# Altium schematic symbol library Node Schematic Library.SchLib: 19 symbols
Pins are listed as number, name and electrical type; pins without a type are passive.

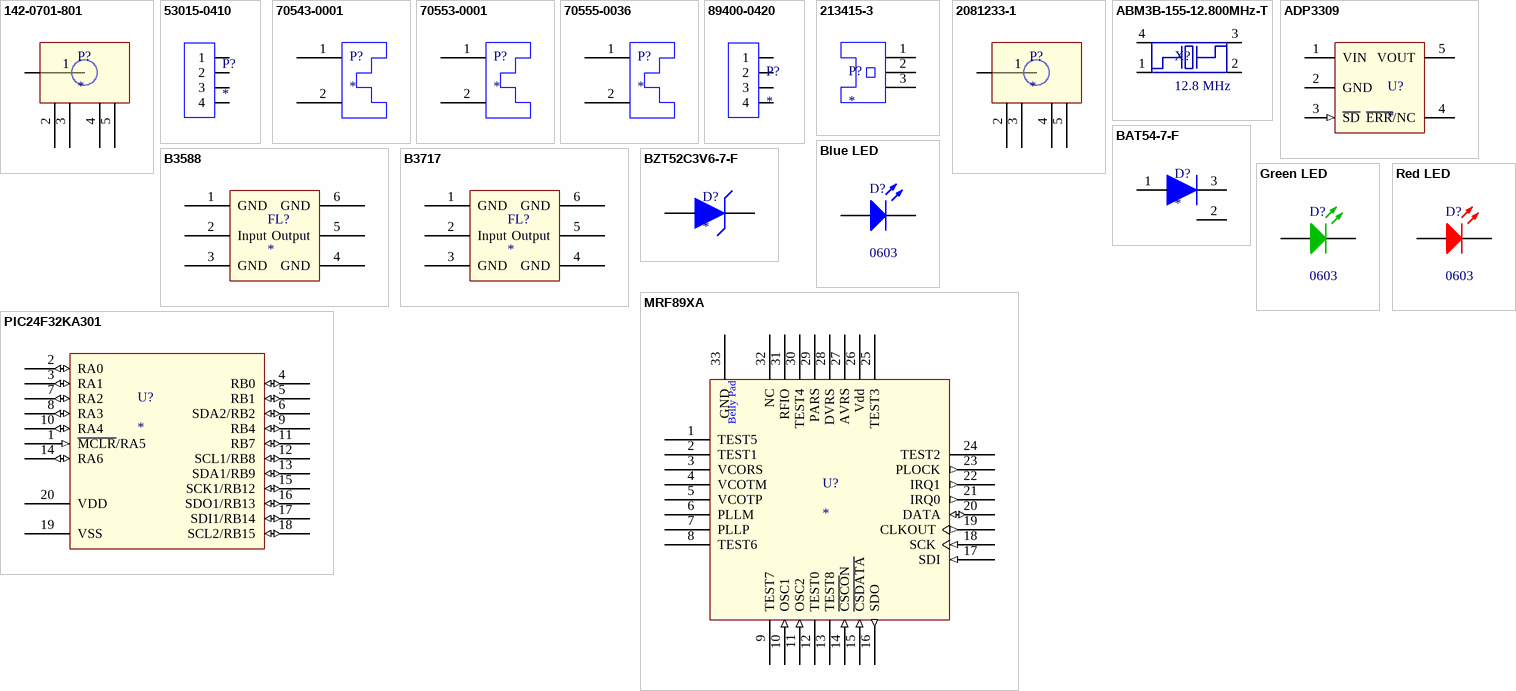
[diagram p0: symbols 142-0701-801 to Red LED]

## 142-0701-801
designator P?
SMA 50 ohm Female Socket, End Launch
footprint 142-0701-801 (SMA Jack, 50 ohm, End Launch)
pins: 1 Pin, 2, 3, 4, 5

## 53015-0410
designator P?
4 Position, 2.00 mm Header, RA
footprint 53015-0410 (2mm RA Header)
pins: 1, 2, 3, 4

## 70543-0001
designator P?
Header, Shrouded, 2 Pin, Horizontal
footprint 070543-0001 (Shrouded 2 Pin Header, Horizontal, 0.100)
pins: 1, 2

## 70553-0001
designator P?
Header, Shrouded, 2 Pin, RA
footprint 070553-0001 (Shrouded 2 Pin Header, RA, 0.100)
pins: 1, 2

## 70555-0036
designator P?
Header, Shrouded, 2 Pin, RA
footprint 70555-0036 (Shrouded 2 Pin Header, RA, 0.100)
pins: 1, 2

## 89400-0420
designator P?
4 Position 2.00 mm Header
footprint 89400-0420 (4 Position, 2.0 mm Vertical Header)
pins: 1, 2, 3, 4

## 213415-3
designator P?
3 Position Vertical Header, 2.5 mm
footprint 2132415-3 (3 Position Vertical Header, 2.5mm)
pins: 1, 2, 3

## 2081233-1
designator P?
SMA 50 ohm Female Socket
footprint 5-1814832-1 (SMA Jack, 50 ohm)
pins: 1 Pin, 2, 3, 4, 5

## ABM3B-155-12.800MHz-T
designator X?, comment 12.8 MHz
Abracon 12.8 MHz, 10ppm
footprint ABM3B (5.0 x 3.2 mm SMT)
pins: 1, 2, 3, 4

## ADP3309
designator U?
100 mA LDO Regulator, 3.3V out
footprint SOT95P280X145-5N (SOT23, 5-Leads, Body 2.90x2.80mm, Pitch 0.95mm, IPC Medium Density)
pins: 1 VIN, 2 GND, 3 ~{SD} (in), 4 ~{ERR}/NC, 5 VOUT

## B3588
designator FL?
915 MHz Saw Filter; EPOCS: http://www.epcos.com/inf/40/ds/ae/B3717.pdf
footprint B3717 (3.0 x 3.0 x 1.1 mm SMT)
pins: 1 GND, 2 Input, 3 GND, 4 GND, 5 Output, 6 GND

## B3717
designator FL?
866.5 MHz Saw Filter; EPOCS: http://www.epcos.com/inf/40/ds/ae/B3717.pdf
footprint B3717 (3.0 x 3.0 x 1.1 mm SMT)
pins: 1 GND, 2 Input, 3 GND, 4 GND, 5 Output, 6 GND

## BAT54-7-F
designator D?
Schottky Barrier Diode, 200mA
footprint SOT90P240X110-3N (SOT23, 3-Leads, Body 2.90x2.40mm, Pitch 0.90mm, IPC Medium Density)
pins: 1, 2, 3

## Blue LED
designator D?, comment 0603
Blue LED; Published: 8-Jun-2000; LatestRevisionDate: 08-Jul-2005; LatestRevisionNote: Mech Layer 1 removed.; PackageReference: LED-0; Publisher: Altium Limited; PackageDescription: LED; 2 Leads
footprint 0603 LED (LED, Body 1.6x0.8mm, IPC High Density)
pins: 1 K, 2 A

## BZT52C3V6-7-F
designator D?
Zener Diode, 3.6V, 500 mW
footprint SOD-123 (Generic Diode)
pins: 1, 2

## Green LED
designator D?, comment 0603
Green LED; Published: 8-Jun-2000; LatestRevisionDate: 08-Jul-2005; LatestRevisionNote: Mech Layer 1 removed.; PackageReference: LED-0; Publisher: Altium Limited; PackageDescription: LED; 2 Leads
footprint 0603 LED (LED, Body 1.6x0.8mm, IPC High Density)
pins: 1 K, 2 A

## MRF89XA
designator U?
ISM Sub-GHz Transceiver
footprint QFN50P500X500X75-32N (QFN, 32-Leads, Body 5.1x5.1mm (max), Pitch 0.50mm, IPC Medium Density)
pins: 1 TEST5, 2 TEST1, 3 VCORS, 4 VCOTM, 5 VCOTP, 6 PLLM, 7 PLLP, 8 TEST6, 9 TEST7, 10 OSC1 (in), 11 OSC2 (in), 12 TEST0, 13 TEST8, 14 ~{CSCO}N (in), 15 ~{CSDATA} (in), 16 SDO (out), 17 SDI (in), 18 SCK (in), 19 CLKOUT (out), 20 DATA (io), 21 IRQ0 (out), 22 IRQ1 (out), 23 PLOCK (out), 24 TEST2, 25 TEST3, 26 Vdd, 27 AVRS, 28 DVRS, 29 PARS, 30 TEST4, 31 RFIO, 32 NC, 33 GND
text: Belly Pad

## PIC24F32KA301
designator U?
PIC Microcontroller, 32K Flash, 20 pin
footprint SOP127P600-8N
pins: 1 ~{MCLR}/RA5 (in), 2 RA0 (io), 3 RA1 (io), 4 RB0 (io), 5 RB1 (io), 6 SDA2/RB2 (io), 7 RA2 (io), 8 RA3 (io), 9 RB4 (io), 10 RA4 (io), 11 RB7 (io), 12 SCL1/RB8 (io), 13 SDA1/RB9 (io), 14 RA6 (io), 15 SCK1/RB12 (io), 16 SDO1/RB13 (io), 17 SDI1/RB14 (io), 18 SCL2/RB15 (io), 19 VSS, 20 VDD (power)

## Red LED
designator D?, comment 0603
Red LED; Published: 8-Jun-2000; LatestRevisionDate: 08-Jul-2005; LatestRevisionNote: Mech Layer 1 removed.; PackageReference: LED-0; Publisher: Altium Limited; PackageDescription: LED; 2 Leads
footprint 0603 LED (LED, Body 1.6x0.8mm, IPC High Density)
pins: 1 K, 2 A